# Altium integrated library XC7A35T-1FTG256C.IntLib: 1 symbol
Pins are listed as number, name and electrical type; pins without a type are passive.

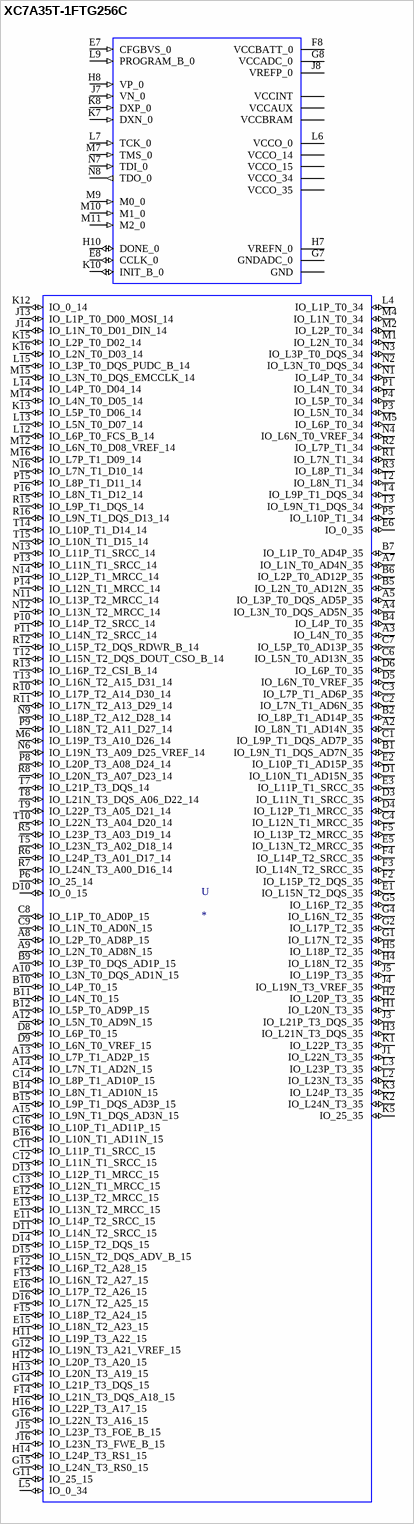
[diagram p0: symbol XC7A35T-1FTG256C]

## XC7A35T-1FTG256C
designator U
IC FPGA 170 I/O 256FTBGA; MP: XC7A35T-1FTG256C; MF: Xilinx Inc.; SnapEDA_Link: https://www.snapeda.com/parts/XC7A35T-1FTG256C/Xilinx%20Inc./view-part/52286/?ref=snap; Value: *; Digi-Key_Part_Number: 122-1910-ND; Digi-Key_Purchase_URL: https://www.digikey.com/product-detail/en/xilinx-inc/XC7A35T-1FTG256C/122-1910-ND/5039074?utm_source=snapeda&utm_medium=aggregator&utm_campaign=symbol; Package: LBGA-256 Xilinx
footprint BGA256C100P16X16_1700X1700X155
pins: A1 GND (power), A2 IO_L8N_T1_AD14N_35 (io), A3 IO_L4N_T0_35 (io), A4 IO_L3N_T0_DQS_AD5N_35 (io), A5 IO_L3P_T0_DQS_AD5P_35 (io), A6 VCCO_35 (power), A7 IO_L1N_T0_AD4N_35 (io), A8 IO_L2P_T0_AD8P_15 (io), A9 IO_L2N_T0_AD8N_15 (io), A10 IO_L3N_T0_DQS_AD1N_15 (io), A11 GND (power), A12 IO_L5N_T0_AD9N_15 (io), A13 IO_L7P_T1_AD2P_15 (io), A14 IO_L7N_T1_AD2N_15 (io), A15 IO_L9N_T1_DQS_AD3N_15 (io), A16 VCCO_15 (power), B1 IO_L9N_T1_DQS_AD7N_35 (io), B2 IO_L8P_T1_AD14P_35 (io), B3 VCCO_35 (power), B4 IO_L4P_T0_35 (io), B5 IO_L2N_T0_AD12N_35 (io), B6 IO_L2P_T0_AD12P_35 (io), B7 IO_L1P_T0_AD4P_35 (io), B8 GND (power), B9 IO_L3P_T0_DQS_AD1P_15 (io), B10 IO_L4P_T0_15 (io), B11 IO_L4N_T0_15 (io), B12 IO_L5P_T0_AD9P_15 (io), B13 VCCO_15 (power), B14 IO_L8N_T1_AD10N_15 (io), B15 IO_L9P_T1_DQS_AD3P_15 (io), B16 IO_L10N_T1_AD11N_15 (io), C1 IO_L9P_T1_DQS_AD7P_35 (io), C2 IO_L7N_T1_AD6N_35 (io), C3 IO_L7P_T1_AD6P_35 (io), C4 IO_L12N_T1_MRCC_35 (io), C5 GND (power), C6 IO_L5N_T0_AD13N_35 (io), C7 IO_L5P_T0_AD13P_35 (io), C8 IO_L1P_T0_AD0P_15 (io), C9 IO_L1N_T0_AD0N_15 (io), C10 VCCO_15 (power), C11 IO_L11P_T1_SRCC_15 (io), C12 IO_L11N_T1_SRCC_15 (io), C13 IO_L12N_T1_MRCC_15 (io), C14 IO_L8P_T1_AD10P_15 (io), C15 GND (power), C16 IO_L10P_T1_AD11P_15 (io), D1 IO_L10N_T1_AD15N_35 (io), D2 GND (power), D3 IO_L11N_T1_SRCC_35 (io), D4 IO_L12P_T1_MRCC_35 (io), D5 IO_L6N_T0_VREF_35 (io), D6 IO_L6P_T0_35 (io), D7 VCCO_35 (power), D8 IO_L6P_T0_15 (io), D9 IO_L6N_T0_VREF_15 (io), D10 IO_0_15 (io), D11 IO_L14N_T2_SRCC_15 (io), D12 GND (power), D13 IO_L12P_T1_MRCC_15 (io), D14 IO_L15P_T2_DQS_15 (io), D15 IO_L15N_T2_DQS_ADV_B_15 (io), D16 IO_L17N_T2_A25_15 (io), E1 IO_L15N_T2_DQS_35 (io), E2 IO_L10P_T1_AD15P_35 (io), E3 IO_L11P_T1_SRCC_35 (io), E4 VCCO_35 (power), E5 IO_L13N_T2_MRCC_35 (io), E6 IO_0_35 (io), E7 CFGBVS_0 (in), E8 CCLK_0 (io), E9 GND (power), E10 VCCBRAM (power), E11 IO_L14P_T2_SRCC_15 (io), E12 IO_L13P_T2_MRCC_15 (io), E13 IO_L13N_T2_MRCC_15 (io), E14 VCCO_15 (power), E15 IO_L18N_T2_A23_15 (io), E16 IO_L17P_T2_A26_15 (io), F1 VCCO_35 (power), F2 IO_L15P_T2_DQS_35 (io), F3 IO_L14N_T2_SRCC_35 (io), F4 IO_L14P_T2_SRCC_35 (io), F5 IO_L13P_T2_MRCC_35 (io), F6 GND (power), F7 VCCINT (power), F8 VCCBATT_0 (power), F9 VCCINT (power), F10 GND (power), F11 VCCBRAM (power), F12 IO_L16P_T2_A28_15 (io), F13 IO_L16N_T2_A27_15 (io), F14 IO_L21N_T3_DQS_A18_15 (io), F15 IO_L18P_T2_A24_15 (io), F16 GND (power), G1 IO_L17N_T2_35 (io), G2 IO_L17P_T2_35 (io), G3 GND (power), G4 IO_L16N_T2_35 (io), G5 IO_L16P_T2_35 (io), G6 VCCINT (power), G7 GNDADC_0 (power), G8 VCCADC_0 (power), G9 GND (power), G10 VCCAUX (power), G11 IO_25_15 (io), G12 IO_L19N_T3_A21_VREF_15 (io), G13 GND (power), G14 IO_L21P_T3_DQS_15 (io), G15 IO_L24N_T3_RS0_15 (io), G16 IO_L22N_T3_A16_15 (io), H1 IO_L20N_T3_35 (io), H2 IO_L20P_T3_35 (io), H3 IO_L21N_T3_DQS_35 (io), H4 IO_L18N_T2_35 (io), H5 IO_L18P_T2_35 (io), H6 GND (power), H7 VREFN_0 (power), H8 VP_0 (in), H9 VCCINT (power), H10 DONE_0 (io), H11 IO_L19P_T3_A22_15 (io), H12 IO_L20P_T3_A20_15 (io), H13 IO_L20N_T3_A19_15 (io), H14 IO_L24P_T3_RS1_15 (io), H15 VCCO_15 (power), H16 IO_L22P_T3_A17_15 (io), J1 IO_L22N_T3_35 (io), J2 VCCO_35 (power), J3 IO_L21P_T3_DQS_35 (io), J4 IO_L19N_T3_VREF_35 (io), J5 IO_L19P_T3_35 (io), J6 VCCINT (power), J7 VN_0 (in), J8 VREFP_0 (power), J9 GND (power), J10 VCCAUX (power), J11 GND (power), J12 VCCO_15 (power), J13 IO_L1P_T0_D00_MOSI_14 (io), J14 IO_L1N_T0_D01_DIN_14 (io), J15 IO_L23P_T3_FOE_B_15 (io), J16 IO_L23N_T3_FWE_B_15 (io), K1 IO_L22P_T3_35 (io), K2 IO_L24N_T3_35 (io), K3 IO_L24P_T3_35 (io), K4 GND (power), K5 IO_25_35 (io), K6 GND (power), K7 DXN_0 (in), K8 DXP_0 (in), K9 VCCINT (power), K10 INIT_B_0 (io), K11 VCCAUX (power), K12 IO_0_14 (io), K13 IO_L5P_T0_D06_14 (io), K14 GND (power), K15 IO_L2P_T0_D02_14 (io), K16 IO_L2N_T0_D03_14 (io), L1 GND (power), L2 IO_L23N_T3_35 (io), L3 IO_L23P_T3_35 (io), L4 IO_L1P_T0_34 (io), L5 IO_0_34 (io), L6 VCCO_0 (power), L7 TCK_0 (in), L8 VCCINT (power), L9 PROGRAM_B_0 (in), L10 VCCAUX (power), L11 GND (power), L12 IO_L6P_T0_FCS_B_14 (io), L13 IO_L5N_T0_D07_14 (io), L14 IO_L4P_T0_D04_14 (io), L15 IO_L3P_T0_DQS_PUDC_B_14 (io), L16 VCCO_14 (power), M1 IO_L2N_T0_34 (io), M2 IO_L2P_T0_34 (io), M3 VCCO_34 (power), M4 IO_L1N_T0_34 (io), M5 IO_L6P_T0_34 (io), M6 IO_L19P_T3_A10_D26_14 (io), M7 TMS_0 (in), M8 GND (power), M9 M0_0 (in), M10 M1_0 (in), M11 M2_0 (in), M12 IO_L6N_T0_D08_VREF_14 (io), M13 VCCO_14 (power), M14 IO_L4N_T0_D05_14 (io), M15 IO_L3N_T0_DQS_EMCCLK_14 (io), M16 IO_L7P_T1_D09_14 (io), N1 IO_L4P_T0_34 (io), N2 IO_L3N_T0_DQS_34 (io), N3 IO_L3P_T0_DQS_34 (io), N4 IO_L6N_T0_VREF_34 (io), N5 GND (power), N6 IO_L19N_T3_A09_D25_VREF_14 (io), N7 TDI_0 (in), N8 TDO_0 (out), N9 IO_L18P_T2_A12_D28_14 (io), N10 VCCO_14 (power), N11 IO_L13P_T2_MRCC_14 (io), N12 IO_L13N_T2_MRCC_14 (io), N13 IO_L11P_T1_SRCC_14 (io), N14 IO_L12P_T1_MRCC_14 (io), N15 GND (power), N16 IO_L7N_T1_D10_14 (io), P1 IO_L4N_T0_34 (io), P2 GND (power), P3 IO_L5N_T0_34 (io), P4 IO_L5P_T0_34 (io), P5 IO_L10P_T1_34 (io), P6 IO_25_14 (io), P7 VCCO_14 (power), P8 IO_L20P_T3_A08_D24_14 (io), P9 IO_L18N_T2_A11_D27_14 (io), P10 IO_L14P_T2_SRCC_14 (io), P11 IO_L14N_T2_SRCC_14 (io), P12 GND (power), P13 IO_L11N_T1_SRCC_14 (io), P14 IO_L12N_T1_MRCC_14 (io), P15 IO_L8P_T1_D11_14 (io), P16 IO_L8N_T1_D12_14 (io), R1 IO_L7N_T1_34 (io), R2 IO_L7P_T1_34 (io), R3 IO_L8P_T1_34 (io), R4 VCCO_34 (power), R5 IO_L23P_T3_A03_D19_14 (io), R6 IO_L24P_T3_A01_D17_14 (io), R7 IO_L24N_T3_A00_D16_14 (io), R8 IO_L20N_T3_A07_D23_14 (io), R9 GND (power), R10 IO_L17P_T2_A14_D30_14 (io), R11 IO_L17N_T2_A13_D29_14 (io), R12 IO_L15P_T2_DQS_RDWR_B_14 (io), R13 IO_L16P_T2_CSI_B_14 (io), R14 VCCO_14 (power), R15 IO_L9P_T1_DQS_14 (io), R16 IO_L9N_T1_DQS_D13_14 (io), T1 VCCO_34 (power), T2 IO_L8N_T1_34 (io), T3 IO_L9N_T1_DQS_34 (io), T4 IO_L9P_T1_DQS_34 (io), T5 IO_L23N_T3_A02_D18_14 (io), T6 GND (power), T7 IO_L21P_T3_DQS_14 (io), T8 IO_L21N_T3_DQS_A06_D22_14 (io), T9 IO_L22P_T3_A05_D21_14 (io), T10 IO_L22N_T3_A04_D20_14 (io), T11 VCCO_14 (power), T12 IO_L15N_T2_DQS_DOUT_CSO_B_14 (io), T13 IO_L16N_T2_A15_D31_14 (io), T14 IO_L10P_T1_D14_14 (io), T15 IO_L10N_T1_D15_14 (io), T16 GND (power)